# Altium schematic symbol library MCU.SchLib: 6 symbols
Pins are listed as number, name and electrical type; pins without a type are passive.

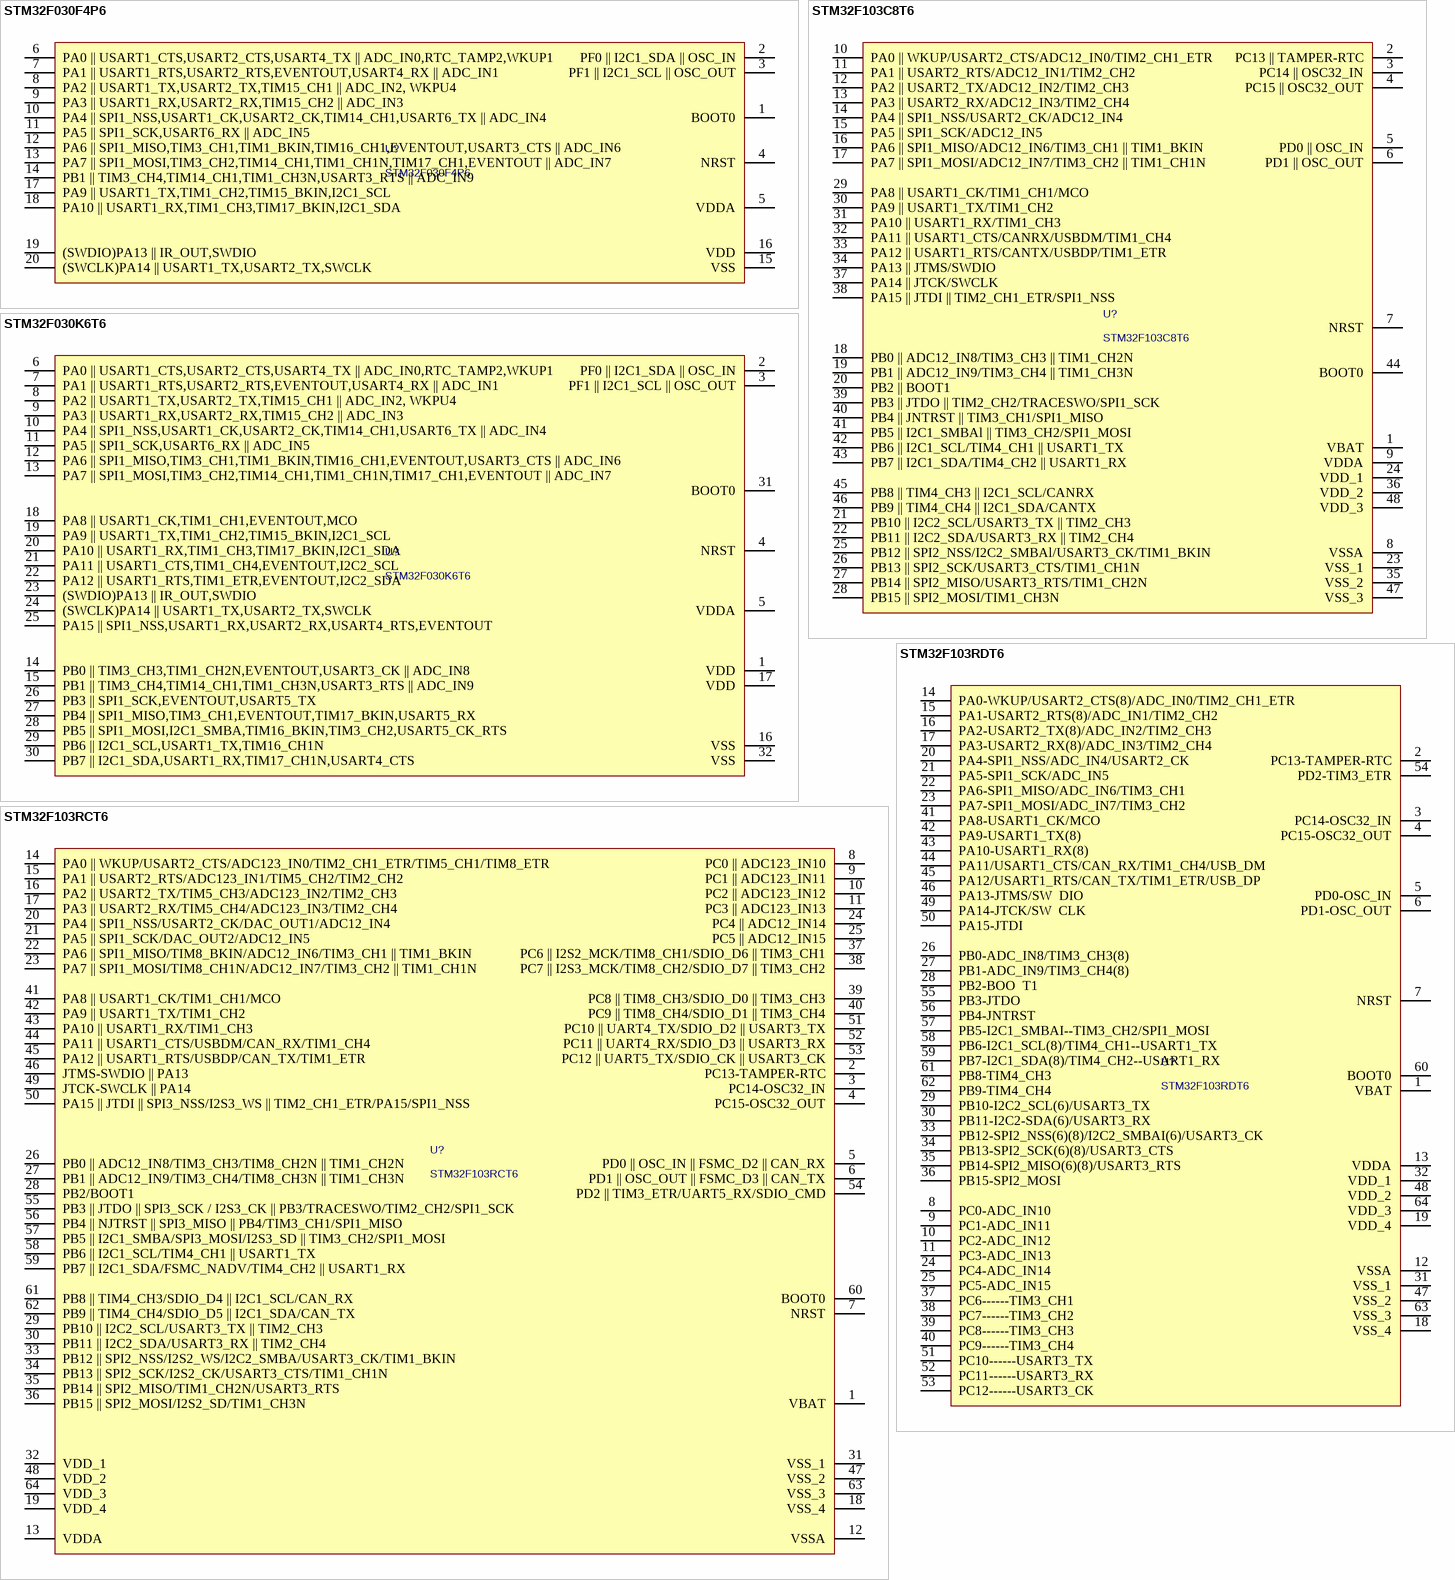
[diagram p0: symbols STM32F030F4P6 to STM32F103RDT6]

## STM32F030F4P6
designator U?
Value_Footprint: TSSOP-20; Value: STM32F030F4P6; State: *; ComponentLink1Description: DataSheet; ComponentLink1URL: https://item.szlcsc.com/datasheet/STM32F030K6T6/47834.html
pins: 1 BOOT0, 2 PF0 || I2C1_SDA || OSC_IN, 3 PF1 || I2C1_SCL || OSC_OUT, 4 NRST, 5 VDDA, 6 PA0 || USART1_CTS,USART2_CTS,USART4_TX || ADC_IN0,RTC_TAMP2,WKUP1, 7 PA1 || USART1_RTS,USART2_RTS,EVENTOUT,USART4_RX || ADC_IN1, 8 PA2 || USART1_TX,USART2_TX,TIM15_CH1 || ADC_IN2, WKPU4, 9 PA3 || USART1_RX,USART2_RX,TIM15_CH2 || ADC_IN3, 10 PA4 || SPI1_NSS,USART1_CK,USART2_CK,TIM14_CH1,USART6_TX || ADC_IN4, 11 PA5 || SPI1_SCK,USART6_RX || ADC_IN5, 12 PA6 || SPI1_MISO,TIM3_CH1,TIM1_BKIN,TIM16_CH1,EVENTOUT,USART3_CTS || ADC_IN6, 13 PA7 || SPI1_MOSI,TIM3_CH2,TIM14_CH1,TIM1_CH1N,TIM17_CH1,EVENTOUT || ADC_IN7, 14 PB1 || TIM3_CH4,TIM14_CH1,TIM1_CH3N,USART3_RTS || ADC_IN9, 15 VSS, 16 VDD, 17 PA9 || USART1_TX,TIM1_CH2,TIM15_BKIN,I2C1_SCL, 18 PA10 || USART1_RX,TIM1_CH3,TIM17_BKIN,I2C1_SDA, 19 (SWDIO)PA13 || IR_OUT,SWDIO, 20 (SWCLK)PA14 || USART1_TX,USART2_TX,SWCLK

## STM32F030K6T6
designator U?
Value_Footprint: LQFP-32(7x7); Value: STM32F030K6T6; State: *; ComponentLink1Description: DataSheet; ComponentLink1URL: https://item.szlcsc.com/datasheet/STM32F030K6T6/47834.html
pins: 1 VDD, 2 PF0 || I2C1_SDA || OSC_IN, 3 PF1 || I2C1_SCL || OSC_OUT, 4 NRST, 5 VDDA, 6 PA0 || USART1_CTS,USART2_CTS,USART4_TX || ADC_IN0,RTC_TAMP2,WKUP1, 7 PA1 || USART1_RTS,USART2_RTS,EVENTOUT,USART4_RX || ADC_IN1, 8 PA2 || USART1_TX,USART2_TX,TIM15_CH1 || ADC_IN2, WKPU4, 9 PA3 || USART1_RX,USART2_RX,TIM15_CH2 || ADC_IN3, 10 PA4 || SPI1_NSS,USART1_CK,USART2_CK,TIM14_CH1,USART6_TX || ADC_IN4, 11 PA5 || SPI1_SCK,USART6_RX || ADC_IN5, 12 PA6 || SPI1_MISO,TIM3_CH1,TIM1_BKIN,TIM16_CH1,EVENTOUT,USART3_CTS || ADC_IN6, 13 PA7 || SPI1_MOSI,TIM3_CH2,TIM14_CH1,TIM1_CH1N,TIM17_CH1,EVENTOUT || ADC_IN7, 14 PB0 || TIM3_CH3,TIM1_CH2N,EVENTOUT,USART3_CK || ADC_IN8, 15 PB1 || TIM3_CH4,TIM14_CH1,TIM1_CH3N,USART3_RTS || ADC_IN9, 16 VSS, 17 VDD, 18 PA8 || USART1_CK,TIM1_CH1,EVENTOUT,MCO, 19 PA9 || USART1_TX,TIM1_CH2,TIM15_BKIN,I2C1_SCL, 20 PA10 || USART1_RX,TIM1_CH3,TIM17_BKIN,I2C1_SDA, 21 PA11 || USART1_CTS,TIM1_CH4,EVENTOUT,I2C2_SCL, 22 PA12 || USART1_RTS,TIM1_ETR,EVENTOUT,I2C2_SDA, 23 (SWDIO)PA13 || IR_OUT,SWDIO, 24 (SWCLK)PA14 || USART1_TX,USART2_TX,SWCLK, 25 PA15 || SPI1_NSS,USART1_RX,USART2_RX,USART4_RTS,EVENTOUT, 26 PB3 || SPI1_SCK,EVENTOUT,USART5_TX, 27 PB4 || SPI1_MISO,TIM3_CH1,EVENTOUT,TIM17_BKIN,USART5_RX, 28 PB5 || SPI1_MOSI,I2C1_SMBA,TIM16_BKIN,TIM3_CH2,USART5_CK_RTS, 29 PB6 || I2C1_SCL,USART1_TX,TIM16_CH1N, 30 PB7 || I2C1_SDA,USART1_RX,TIM17_CH1N,USART4_CTS, 31 BOOT0, 32 VSS

## STM32F103C8T6
designator U?
Value_Footprint: LQFP-48(7x7); Value: STM32F103C8T6; State: *; ComponentLink1Description: DataSheet; ComponentLink1URL: https://item.szlcsc.com/datasheet/STM32F103C8T6/9243.html?spm=sc.gbn.xds.a___sc.hm.hd.ss&lcsc_vid=QVIKAgBVFVddAQYCE1ZcA1QDEVhYVwUFTlcIU11UT1QxVlNTR1hXVVFWT1dZUztW
footprint LQFP-48
pins: 1 VBAT, 2 PC13 || TAMPER-RTC, 3 PC14 || OSC32_IN, 4 PC15 || OSC32_OUT, 5 PD0 || OSC_IN, 6 PD1 || OSC_OUT, 7 NRST, 8 VSSA, 9 VDDA, 10 PA0 || WKUP/USART2_CTS/ADC12_IN0/TIM2_CH1_ETR, 11 PA1 || USART2_RTS/ADC12_IN1/TIM2_CH2, 12 PA2 || USART2_TX/ADC12_IN2/TIM2_CH3, 13 PA3 || USART2_RX/ADC12_IN3/TIM2_CH4, 14 PA4 || SPI1_NSS/USART2_CK/ADC12_IN4, 15 PA5 || SPI1_SCK/ADC12_IN5, 16 PA6 || SPI1_MISO/ADC12_IN6/TIM3_CH1 || TIM1_BKIN, 17 PA7 || SPI1_MOSI/ADC12_IN7/TIM3_CH2 || TIM1_CH1N, 18 PB0 || ADC12_IN8/TIM3_CH3 || TIM1_CH2N, 19 PB1 || ADC12_IN9/TIM3_CH4 || TIM1_CH3N, 20 PB2 || BOOT1, 21 PB10 || I2C2_SCL/USART3_TX || TIM2_CH3, 22 PB11 || I2C2_SDA/USART3_RX || TIM2_CH4, 23 VSS_1, 24 VDD_1, 25 PB12 || SPI2_NSS/I2C2_SMBAl/USART3_CK/TIM1_BKIN, 26 PB13 || SPI2_SCK/USART3_CTS/TIM1_CH1N, 27 PB14 || SPI2_MISO/USART3_RTS/TIM1_CH2N, 28 PB15 || SPI2_MOSI/TIM1_CH3N, 29 PA8 || USART1_CK/TIM1_CH1/MCO, 30 PA9 || USART1_TX/TIM1_CH2, 31 PA10 || USART1_RX/TIM1_CH3, 32 PA11 || USART1_CTS/CANRX/USBDM/TIM1_CH4, 33 PA12 || USART1_RTS/CANTX/USBDP/TIM1_ETR, 34 PA13 || JTMS/SWDIO, 35 VSS_2, 36 VDD_2, 37 PA14 || JTCK/SWCLK, 38 PA15 || JTDI || TIM2_CH1_ETR/SPI1_NSS, 39 PB3 || JTDO || TIM2_CH2/TRACESWO/SPI1_SCK, 40 PB4 || JNTRST || TIM3_CH1/SPI1_MISO, 41 PB5 || I2C1_SMBAl || TIM3_CH2/SPI1_MOSI, 42 PB6 || I2C1_SCL/TIM4_CH1 || USART1_TX, 43 PB7 || I2C1_SDA/TIM4_CH2 || USART1_RX, 44 BOOT0, 45 PB8 || TIM4_CH3 || I2C1_SCL/CANRX, 46 PB9 || TIM4_CH4 || I2C1_SDA/CANTX, 47 VSS_3, 48 VDD_3

## STM32F103RCT6
designator U?
Value_Footprint: LQFP-64(10x10); Value: STM32F103RCT6; State: *; ComponentLink1Description: DataSheet; ComponentLink1URL: https://item.szlcsc.com/datasheet/STM32F103RDT6/89616.html
footprint LQFP-64
pins: 1 VBAT, 2 PC13-TAMPER-RTC, 3 PC14-OSC32_IN, 4 PC15-OSC32_OUT, 5 PD0 || OSC_IN || FSMC_D2 || CAN_RX, 6 PD1 || OSC_OUT || FSMC_D3 || CAN_TX, 7 NRST, 8 PC0 || ADC123_IN10, 9 PC1 || ADC123_IN11, 10 PC2 || ADC123_IN12, 11 PC3 || ADC123_IN13, 12 VSSA, 13 VDDA, 14 PA0 || WKUP/USART2_CTS/ADC123_IN0/TIM2_CH1_ETR/TIM5_CH1/TIM8_ETR, 15 PA1 || USART2_RTS/ADC123_IN1/TIM5_CH2/TIM2_CH2, 16 PA2 || USART2_TX/TIM5_CH3/ADC123_IN2/TIM2_CH3, 17 PA3 || USART2_RX/TIM5_CH4/ADC123_IN3/TIM2_CH4, 18 VSS_4, 19 VDD_4, 20 PA4 || SPI1_NSS/USART2_CK/DAC_OUT1/ADC12_IN4, 21 PA5 || SPI1_SCK/DAC_OUT2/ADC12_IN5, 22 PA6 || SPI1_MISO/TIM8_BKIN/ADC12_IN6/TIM3_CH1 || TIM1_BKIN, 23 PA7 || SPI1_MOSI/TIM8_CH1N/ADC12_IN7/TIM3_CH2 || TIM1_CH1N, 24 PC4 || ADC12_IN14, 25 PC5 || ADC12_IN15, 26 PB0 || ADC12_IN8/TIM3_CH3/TIM8_CH2N || TIM1_CH2N, 27 PB1 || ADC12_IN9/TIM3_CH4/TIM8_CH3N || TIM1_CH3N, 28 PB2/BOOT1, 29 PB10 || I2C2_SCL/USART3_TX || TIM2_CH3, 30 PB11 || I2C2_SDA/USART3_RX || TIM2_CH4, 31 VSS_1, 32 VDD_1, 33 PB12 || SPI2_NSS/I2S2_WS/I2C2_SMBA/USART3_CK/TIM1_BKIN, 34 PB13 || SPI2_SCK/I2S2_CK/USART3_CTS/TIM1_CH1N, 35 PB14 || SPI2_MISO/TIM1_CH2N/USART3_RTS, 36 PB15 || SPI2_MOSI/I2S2_SD/TIM1_CH3N, 37 PC6 || I2S2_MCK/TIM8_CH1/SDIO_D6 || TIM3_CH1, 38 PC7 || I2S3_MCK/TIM8_CH2/SDIO_D7 || TIM3_CH2, 39 PC8 || TIM8_CH3/SDIO_D0 || TIM3_CH3, 40 PC9 || TIM8_CH4/SDIO_D1 || TIM3_CH4, 41 PA8 || USART1_CK/TIM1_CH1/MCO, 42 PA9 || USART1_TX/TIM1_CH2, 43 PA10 || USART1_RX/TIM1_CH3, 44 PA11 || USART1_CTS/USBDM/CAN_RX/TIM1_CH4, 45 PA12 || USART1_RTS/USBDP/CAN_TX/TIM1_ETR, 46 JTMS-SWDIO || PA13, 47 VSS_2, 48 VDD_2, 49 JTCK-SWCLK || PA14, 50 PA15 || JTDI || SPI3_NSS/I2S3_WS || TIM2_CH1_ETR/PA15/SPI1_NSS, 51 PC10 || UART4_TX/SDIO_D2 || USART3_TX, 52 PC11 || UART4_RX/SDIO_D3 || USART3_RX, 53 PC12 || UART5_TX/SDIO_CK || USART3_CK, 54 PD2 || TIM3_ETR/UART5_RX/SDIO_CMD, 55 PB3 || JTDO || SPI3_SCK / I2S3_CK || PB3/TRACESWO/TIM2_CH2/SPI1_SCK, 56 PB4 || NJTRST || SPI3_MISO || PB4/TIM3_CH1/SPI1_MISO, 57 PB5 || I2C1_SMBA/SPI3_MOSI/I2S3_SD || TIM3_CH2/SPI1_MOSI, 58 PB6 || I2C1_SCL/TIM4_CH1 || USART1_TX, 59 PB7 || I2C1_SDA/FSMC_NADV/TIM4_CH2 || USART1_RX, 60 BOOT0, 61 PB8 || TIM4_CH3/SDIO_D4 || I2C1_SCL/CAN_RX, 62 PB9 || TIM4_CH4/SDIO_D5 || I2C1_SDA/CAN_TX, 63 VSS_3, 64 VDD_3

## STM32F103RDT6
designator U?
Value_Footprint: LQFP-64(10x10); Value: STM32F103RDT6; State: *; ComponentLink1Description: DataSheet; ComponentLink1URL: https://atta.szlcsc.com/upload/public/pdf/source/20180327/C88435_0E51D69B5FFD7B1A3F36EB9FC047A4C2.pdf
pins: 1 VBAT, 2 PC13-TAMPER-RTC, 3 PC14-OSC32_IN, 4 PC15-OSC32_OUT, 5 PD0-OSC_IN, 6 PD1-OSC_OUT, 7 NRST, 8 PC0-ADC_IN10, 9 PC1-ADC_IN11, 10 PC2-ADC_IN12, 11 PC3-ADC_IN13, 12 VSSA, 13 VDDA, 14 PA0-WKUP/USART2_CTS(8)/ADC_IN0/TIM2_CH1_ETR, 15 PA1-USART2_RTS(8)/ADC_IN1/TIM2_CH2, 16 PA2-USART2_TX(8)/ADC_IN2/TIM2_CH3, 17 PA3-USART2_RX(8)/ADC_IN3/TIM2_CH4, 18 VSS_4, 19 VDD_4, 20 PA4-SPI1_NSS/ADC_IN4/USART2_CK, 21 PA5-SPI1_SCK/ADC_IN5, 22 PA6-SPI1_MISO/ADC_IN6/TIM3_CH1, 23 PA7-SPI1_MOSI/ADC_IN7/TIM3_CH2, 24 PC4-ADC_IN14, 25 PC5-ADC_IN15, 26 PB0-ADC_IN8/TIM3_CH3(8), 27 PB1-ADC_IN9/TIM3_CH4(8), 28 PB2-BOO  T1, 29 PB10-I2C2_SCL(6)/USART3_TX, 30 PB11-I2C2-SDA(6)/USART3_RX, 31 VSS_1, 32 VDD_1, 33 PB12-SPI2_NSS(6)(8)/I2C2_SMBAI(6)/USART3_CK, 34 PB13-SPI2_SCK(6)(8)/USART3_CTS, 35 PB14-SPI2_MISO(6)(8)/USART3_RTS, 36 PB15-SPI2_MOSI, 37 PC6------TIM3_CH1, 38 PC7------TIM3_CH2, 39 PC8------TIM3_CH3, 40 PC9------TIM3_CH4, 41 PA8-USART1_CK/MCO, 42 PA9-USART1_TX(8), 43 PA10-USART1_RX(8), 44 PA11/USART1_CTS/CAN_RX/TIM1_CH4/USB_DM, 45 PA12/USART1_RTS/CAN_TX/TIM1_ETR/USB_DP, 46 PA13-JTMS/SW  DIO, 47 VSS_2, 48 VDD_2, 49 PA14-JTCK/SW  CLK, 50 PA15-JTDI, 51 PC10------USART3_TX, 52 PC11------USART3_RX, 53 PC12------USART3_CK, 54 PD2-TIM3_ETR, 55 PB3-JTDO, 56 PB4-JNTRST, 57 PB5-I2C1_SMBAI--TIM3_CH2/SPI1_MOSI, 58 PB6-I2C1_SCL(8)/TIM4_CH1--USART1_TX, 59 PB7-I2C1_SDA(8)/TIM4_CH2--USART1_RX, 60 BOOT0, 61 PB8-TIM4_CH3, 62 PB9-TIM4_CH4, 63 VSS_3, 64 VDD_3

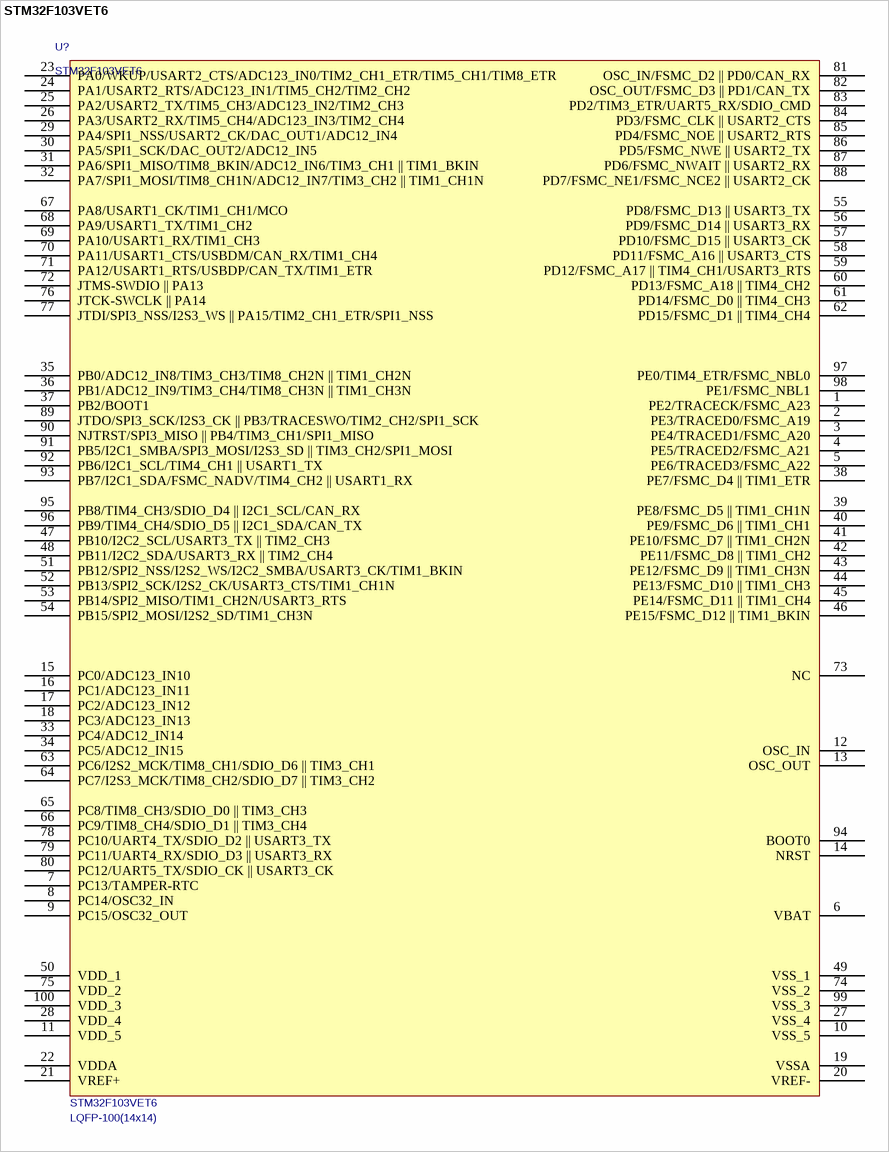
[diagram p1: symbol STM32F103VET6]

## STM32F103VET6
designator U?  Value_Footprint: LQFP-100(14x14)
State: STM32F103VET6; ComponentLink1Description: DataSheet; Value: STM32F103VET6
pins: 1 PE2/TRACECK/FSMC_A23, 2 PE3/TRACED0/FSMC_A19, 3 PE4/TRACED1/FSMC_A20, 4 PE5/TRACED2/FSMC_A21, 5 PE6/TRACED3/FSMC_A22, 6 VBAT, 7 PC13/TAMPER-RTC, 8 PC14/OSC32_IN, 9 PC15/OSC32_OUT, 10 VSS_5, 11 VDD_5, 12 OSC_IN, 13 OSC_OUT, 14 NRST, 15 PC0/ADC123_IN10, 16 PC1/ADC123_IN11, 17 PC2/ADC123_IN12, 18 PC3/ADC123_IN13, 19 VSSA, 20 VREF-, 21 VREF+, 22 VDDA, 23 PA0/WKUP/USART2_CTS/ADC123_IN0/TIM2_CH1_ETR/TIM5_CH1/TIM8_ETR, 24 PA1/USART2_RTS/ADC123_IN1/TIM5_CH2/TIM2_CH2, 25 PA2/USART2_TX/TIM5_CH3/ADC123_IN2/TIM2_CH3, 26 PA3/USART2_RX/TIM5_CH4/ADC123_IN3/TIM2_CH4, 27 VSS_4, 28 VDD_4, 29 PA4/SPI1_NSS/USART2_CK/DAC_OUT1/ADC12_IN4, 30 PA5/SPI1_SCK/DAC_OUT2/ADC12_IN5, 31 PA6/SPI1_MISO/TIM8_BKIN/ADC12_IN6/TIM3_CH1 || TIM1_BKIN, 32 PA7/SPI1_MOSI/TIM8_CH1N/ADC12_IN7/TIM3_CH2 || TIM1_CH1N, 33 PC4/ADC12_IN14, 34 PC5/ADC12_IN15, 35 PB0/ADC12_IN8/TIM3_CH3/TIM8_CH2N || TIM1_CH2N, 36 PB1/ADC12_IN9/TIM3_CH4/TIM8_CH3N || TIM1_CH3N, 37 PB2/BOOT1, 38 PE7/FSMC_D4 || TIM1_ETR, 39 PE8/FSMC_D5 || TIM1_CH1N, 40 PE9/FSMC_D6 || TIM1_CH1, 41 PE10/FSMC_D7 || TIM1_CH2N, 42 PE11/FSMC_D8 || TIM1_CH2, 43 PE12/FSMC_D9 || TIM1_CH3N, 44 PE13/FSMC_D10 || TIM1_CH3, 45 PE14/FSMC_D11 || TIM1_CH4, 46 PE15/FSMC_D12 || TIM1_BKIN, 47 PB10/I2C2_SCL/USART3_TX || TIM2_CH3, 48 PB11/I2C2_SDA/USART3_RX || TIM2_CH4, 49 VSS_1, 50 VDD_1, 51 PB12/SPI2_NSS/I2S2_WS/I2C2_SMBA/USART3_CK/TIM1_BKIN, 52 PB13/SPI2_SCK/I2S2_CK/USART3_CTS/TIM1_CH1N, 53 PB14/SPI2_MISO/TIM1_CH2N/USART3_RTS, 54 PB15/SPI2_MOSI/I2S2_SD/TIM1_CH3N, 55 PD8/FSMC_D13 || USART3_TX, 56 PD9/FSMC_D14 || USART3_RX, 57 PD10/FSMC_D15 || USART3_CK, 58 PD11/FSMC_A16 || USART3_CTS, 59 PD12/FSMC_A17 || TIM4_CH1/USART3_RTS, 60 PD13/FSMC_A18 || TIM4_CH2, 61 PD14/FSMC_D0 || TIM4_CH3, 62 PD15/FSMC_D1 || TIM4_CH4, 63 PC6/I2S2_MCK/TIM8_CH1/SDIO_D6 || TIM3_CH1, 64 PC7/I2S3_MCK/TIM8_CH2/SDIO_D7 || TIM3_CH2, 65 PC8/TIM8_CH3/SDIO_D0 || TIM3_CH3, 66 PC9/TIM8_CH4/SDIO_D1 || TIM3_CH4, 67 PA8/USART1_CK/TIM1_CH1/MCO, 68 PA9/USART1_TX/TIM1_CH2, 69 PA10/USART1_RX/TIM1_CH3, 70 PA11/USART1_CTS/USBDM/CAN_RX/TIM1_CH4, 71 PA12/USART1_RTS/USBDP/CAN_TX/TIM1_ETR, 72 JTMS-SWDIO || PA13, 73 NC, 74 VSS_2, 75 VDD_2, 76 JTCK-SWCLK || PA14, 77 JTDI/SPI3_NSS/I2S3_WS || PA15/TIM2_CH1_ETR/SPI1_NSS, 78 PC10/UART4_TX/SDIO_D2 || USART3_TX, 79 PC11/UART4_RX/SDIO_D3 || USART3_RX, 80 PC12/UART5_TX/SDIO_CK || USART3_CK, 81 OSC_IN/FSMC_D2 || PD0/CAN_RX, 82 OSC_OUT/FSMC_D3 || PD1/CAN_TX, 83 PD2/TIM3_ETR/UART5_RX/SDIO_CMD, 84 PD3/FSMC_CLK || USART2_CTS, 85 PD4/FSMC_NOE || USART2_RTS, 86 PD5/FSMC_NWE || USART2_TX, 87 PD6/FSMC_NWAIT || USART2_RX, 88 PD7/FSMC_NE1/FSMC_NCE2 || USART2_CK, 89 JTDO/SPI3_SCK/I2S3_CK || PB3/TRACESWO/TIM2_CH2/SPI1_SCK, 90 NJTRST/SPI3_MISO || PB4/TIM3_CH1/SPI1_MISO, 91 PB5/I2C1_SMBA/SPI3_MOSI/I2S3_SD || TIM3_CH2/SPI1_MOSI, 92 PB6/I2C1_SCL/TIM4_CH1 || USART1_TX, 93 PB7/I2C1_SDA/FSMC_NADV/TIM4_CH2 || USART1_RX, 94 BOOT0, 95 PB8/TIM4_CH3/SDIO_D4 || I2C1_SCL/CAN_RX, 96 PB9/TIM4_CH4/SDIO_D5 || I2C1_SDA/CAN_TX, 97 PE0/TIM4_ETR/FSMC_NBL0, 98 PE1/FSMC_NBL1, 99 VSS_3, 100 VDD_3